# Altium footprint library Packaging.PcbLib: 2 footprints
Each footprint in its own frame and in the unit in brackets; x right, y up, seen from the top. Pads: shape width x height; smd on the part's side, far side on the other; paste and mask are expansions set on the pad; w line width, h text height; cw(c..) or ccw(c..) is an arc to the next point about the centre after c.
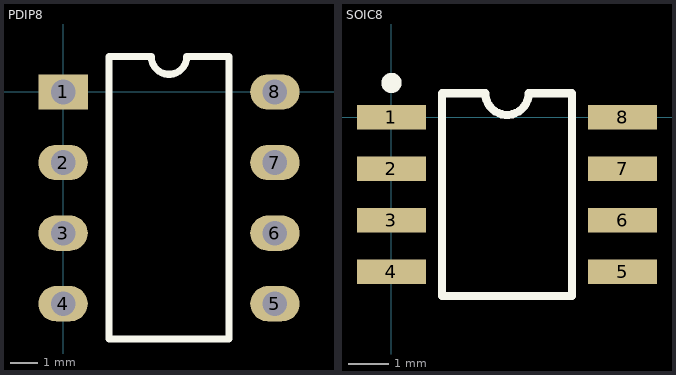
[diagram p0: the footprints below, top view; thin cyan lines are the x and y axes]

## PDIP8 [mil]
pads (8):
  rect 70x50 hole 35: 1(0,0)
  oval 70x50 hole 35: 2(0,-100) 3(0,-200) 4(0,-300) 5(300,-300) 6(300,-200) 7(300,-100) 8(300,0)
Top Overlay:
  lines w10: 65,-350 65,50 125,50 ccw(c150,50) 175,50 235,50 235,-350 65,-350
3D body: height 0, standoff -125, extent 295,-7.5 305,7.5
3D body: height 50, standoff 0, extent 295,-25 305,25
3D body: height 50, standoff 40, extent 275,-25 295,25
3D body: height 0, standoff -125, extent 295,-107.5 305,-92.5
3D body: height 50, standoff 0, extent 295,-125 305,-75
3D body: height 50, standoff 40, extent 275,-125 295,-75
3D body: height 0, standoff -125, extent 295,-207.5 305,-192.5
3D body: height 50, standoff 0, extent 295,-225 305,-175
3D body: height 50, standoff 40, extent 275,-225 295,-175
3D body: height 0, standoff -125, extent 295,-307.5 305,-292.5
3D body: height 50, standoff 0, extent 295,-325 305,-275
3D body: height 50, standoff 40, extent 275,-325 295,-275
3D body: height 0, standoff -125, extent -5,-307.5 5,-292.5
3D body: height 50, standoff 0, extent -5,-325 5,-275
3D body: height 50, standoff 40, extent 5,-325 25,-275
3D body: height 0, standoff -125, extent -5,-207.5 5,-192.5
3D body: height 50, standoff 0, extent -5,-225 5,-175
3D body: height 50, standoff 40, extent 5,-225 25,-175
3D body: height 0, standoff -125, extent -5,-107.5 5,-92.5
3D body: height 50, standoff 0, extent -5,-125 5,-75
3D body: height 50, standoff 40, extent 5,-125 25,-75
3D body: height 0, standoff -125, extent -5,-7.5 5,7.5
3D body: height 50, standoff 0, extent -5,-25 5,25
3D body: height 50, standoff 40, extent 5,-25 25,25
3D body: height 100, standoff 15, extent 25,-350 275,50.03

## SOIC8 [mm]
pads (8):
  rect 1.7x0.6 smd: 1(0,0) 2(0,-1.27) 3(0,-2.54) 4(0,-3.81) 5(5.7,-3.81) 6(5.7,-2.54) 7(5.7,-1.27) 8(5.7,0)
Top Overlay:
  circle w0.25: c0,0.85 r0.125
  lines w0.2: 2.317,0.595 1.25,0.595 1.25,-4.405 4.45,-4.405 4.45,0.595 3.383,0.595 cw(c2.85,0.595) 2.317,0.595
3D body: height 0.25, standoff 0, extent -0.508,-0.254 1.27,0.254
3D body: height 0.25, standoff 0, extent -0.508,-1.524 1.27,-1.016
3D body: height 0.25, standoff 0, extent -0.508,-2.794 1.27,-2.286
3D body: height 0.25, standoff 0, extent -0.508,-4.064 1.27,-3.556
3D body: height 0.25, standoff 0, extent 4.318,-4.064 6.096,-3.556
3D body: height 0.25, standoff 0, extent 4.318,-2.794 6.096,-2.286
3D body: height 0.25, standoff 0, extent 4.318,-1.524 6.096,-1.016
3D body: height 1.2, standoff 0, extent 1.249,-4.406 4.451,0.596
3D body: height 0.25, standoff 0, extent 4.318,-0.254 6.096,0.254